# Altium footprint library 封装库.PcbLib: 3 footprints
Each footprint in its own frame and in the unit in brackets; x right, y up, seen from the top. Pads: shape width x height; smd on the part's side, far side on the other; paste and mask are expansions set on the pad; w line width, h text height; cw(c..) or ccw(c..) is an arc to the next point about the centre after c.
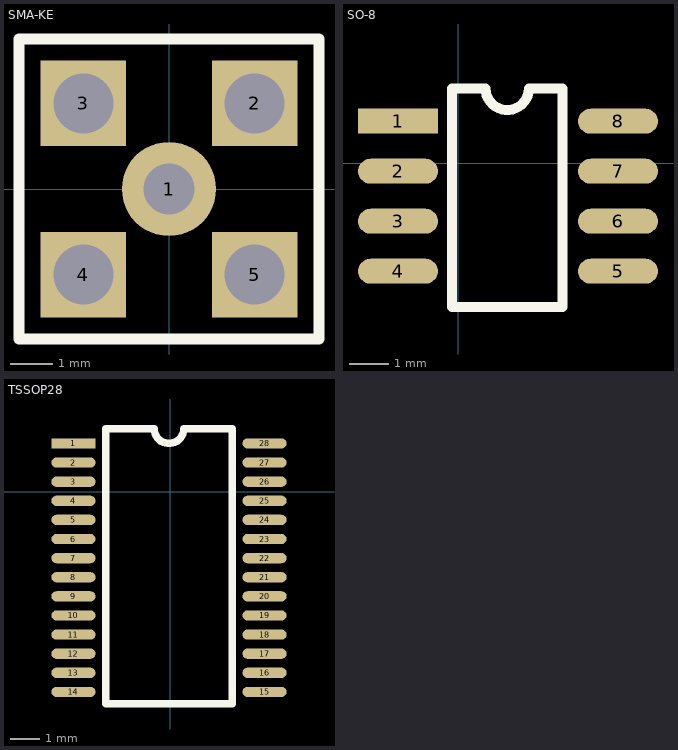
[diagram p0: the footprints below, top view; thin cyan lines are the x and y axes]

## SMA-KE [mm]
pads (5):
  round 2.2 hole 1.2: 1(0,0)
  rect 2x2 hole 1.4: 2(2,2) 3(-2,2) 4(-2,-2) 5(2,-2)
Top Overlay:
  lines w0.254: -3.5,-3.5 3.5,-3.5 3.5,3.5 -3.5,3.5 -3.5,-3.5

## SO-8 [mil]
pads (8):
  rect 80x25 smd: 1(-60,41.97)
  oval 80x25 smd: 2(-60,-8.03) 3(-60,-58.03) 4(-60,-108.03) 5(160,-108.03) 6(160,-58.03) 7(160,-8.03) 8(160,41.97)
Top Overlay:
  lines w10: -5.91,-143.7 -5.91,74.8 27.56,74.8 ccw(c49.21,74.8) 70.87,74.8 104.33,74.8 104.33,-143.7 -5.91,-143.7

## TSSOP28 [mm]
pads (28):
  rect 1.5x0.35 all layers, no hole: 1(-3.3,1.65)
  oval 1.5x0.35 all layers, no hole: 2(-3.3,1) 3(-3.3,0.35) 4(-3.3,-0.3) 5(-3.3,-0.95) 6(-3.3,-1.6) 7(-3.3,-2.25) 8(-3.3,-2.9) 9(-3.3,-3.55) 10(-3.3,-4.2) 11(-3.3,-4.85) 12(-3.3,-5.5) 13(-3.3,-6.15) 14(-3.3,-6.8) 15(3.2,-6.8) 16(3.2,-6.15) 17(3.2,-5.5) 18(3.2,-4.85) 19(3.2,-4.2) 20(3.2,-3.55) 21(3.2,-2.9) 22(3.2,-2.25) 23(3.2,-1.6) 24(3.2,-0.95) 25(3.2,-0.3) 26(3.2,0.35) 27(3.2,1) 28(3.2,1.65)
Top Overlay:
  lines w0.254: -2.2,-7.2 2.1,-7.2 2.1,2.15 0.45,2.15 cw(c-0.05,2.15) -0.55,2.15 -2.2,2.15 -2.2,-7.2